# Altium footprint library 74477310.PcbLib: 1 footprints
Each footprint in its own frame and in the unit in brackets; x right, y up, seen from the top. Pads: shape width x height; smd on the part's side, far side on the other; paste and mask are expansions set on the pad; w line width, h text height; cw(c..) or ccw(c..) is an arc to the next point about the centre after c.
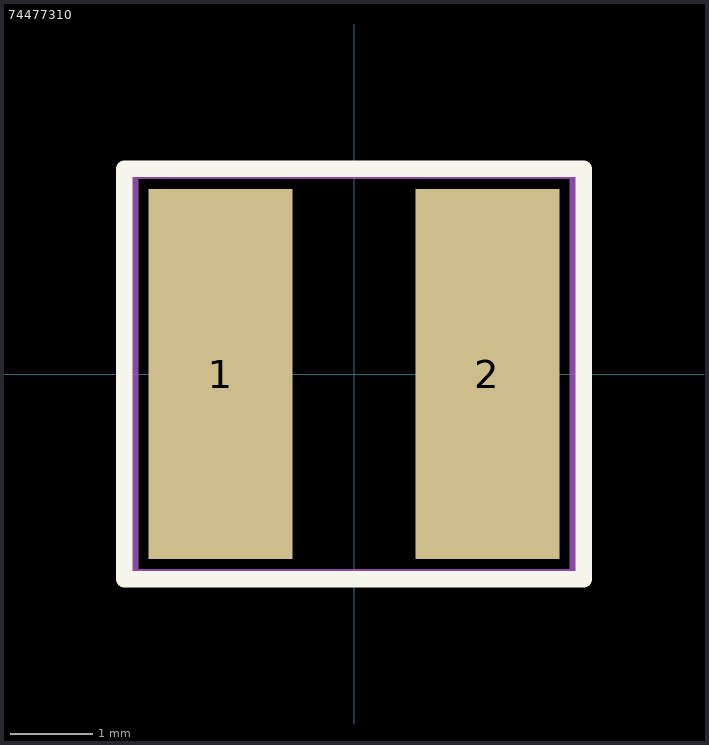
[diagram p0: the footprint, top view; thin cyan lines are the x and y axes]

## 74477310 [mm]
height 0.95
pads (2):
  rect 1.75x4.5 smd: 1(-1.625,0) 2(1.625,0)
Top Overlay:
  lines w0.2: -2.8,-2.5 2.8,-2.5 2.8,2.5 -2.8,2.5 -2.8,-2.5
Top Assembly:
  lines w0.15: -2.7,-2.45 -2.7,2.45 2.7,2.45 2.7,-2.45 -2.7,-2.45
  text "'.Designator'" at -0.675,-0.375 h0.8
3D body "74477310.stp": height 3.2, standoff 0, extent -2.25,-2 2.25,2